# Altium footprint library 5134.64-6.PcbLib: 1 footprints
Each footprint in its own frame and in the unit in brackets; x right, y up, seen from the top. Pads: shape width x height; smd on the part's side, far side on the other; paste and mask are expansions set on the pad; w line width, h text height; cw(c..) or ccw(c..) is an arc to the next point about the centre after c.
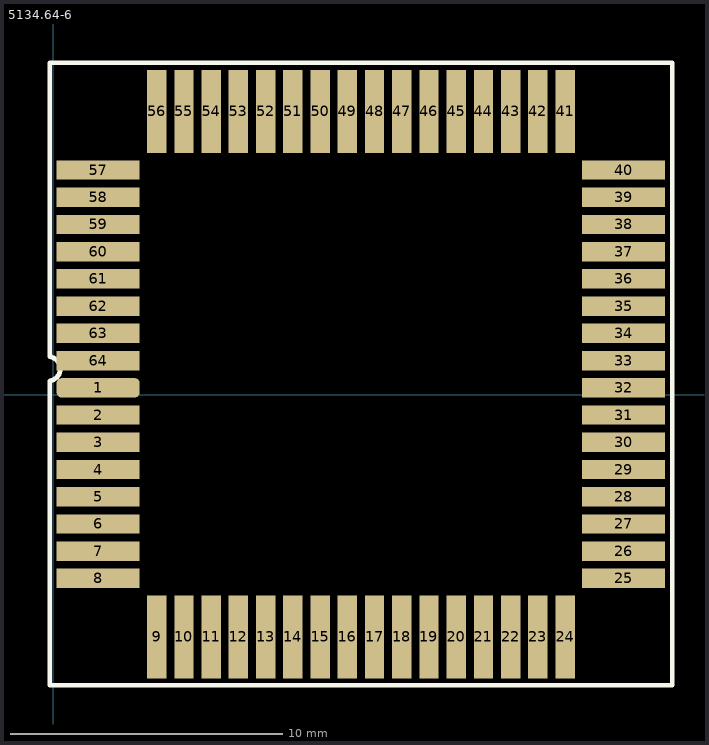
[diagram p0: the footprint, top view; thin cyan lines are the x and y axes]

## 5134.64-6 [mil]
pads (64):
  rrect50% 120x28 smd: 1(65,10)
  rect 120x28 smd: 2(65,-29.37) 3(65,-68.74) 4(65,-108.11) 5(65,-147.48) 6(65,-186.85) 7(65,-226.22) 8(65,-265.59) 25(824.84,-265.59) 26(824.84,-226.22) 27(824.84,-186.85) 28(824.84,-147.48) 29(824.84,-108.11) 30(824.84,-68.74) 31(824.84,-29.37) 32(824.84,10) 33(824.84,49.37) 34(824.84,88.74) 35(824.84,128.11) 36(824.84,167.48) 37(824.84,206.85) 38(824.84,246.22) 39(824.84,285.59) 40(824.84,324.96) 57(65,324.96) 58(65,285.59) 59(65,246.22) 60(65,206.85) 61(65,167.48) 62(65,128.11) 63(65,88.74) 64(65,49.37)
  rect 28x120 smd: 9(149.65,-350.24) 10(189.02,-350.24) 11(228.39,-350.24) 12(267.76,-350.24) 13(307.13,-350.24) 14(346.5,-350.24) 15(385.87,-350.24) 16(425.24,-350.24) 17(464.61,-350.24) 18(503.98,-350.24) 19(543.35,-350.24) 20(582.72,-350.24) 21(622.09,-350.24) 22(661.46,-350.24) 23(700.83,-350.24) 24(740.2,-350.24) 41(740.2,409.61) 42(700.83,409.61) 43(661.46,409.61) 44(622.09,409.61) 45(582.72,409.61) 46(543.35,409.61) 47(503.98,409.61) 48(464.61,409.61) 49(425.24,409.61) 50(385.87,409.61) 51(346.5,409.61) 52(307.13,409.61) 53(267.76,409.61) 54(228.39,409.61) 55(189.02,409.61) 56(149.65,409.61)
Top Overlay:
  lines w6: -5,20 -5,-195 -5,-420 895,-420 895,480 -5,480 -5,55
  lines w7: -5,20 ccw(c-7.5,37.5) 10,40 ; -5,55 cw(c-7.5,37.5) 10,35
3D body: height 126, standoff 7, extent 85,-330 800,390